# Altium schematic symbol library WL-STCB.SchLib: 2 symbols
Pins are listed as number, name and electrical type; pins without a type are passive.

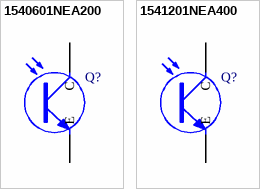
[diagram p0: symbols 1540601NEA200 to 1541201NEA400]

## 1540601NEA200
designator Q?  (value not drawn)
WL-STCB SMT Phototransistor Chip Black, size 0603, 700-1100nm, 1mA, 120°; Manufacturer: Wurth Elektronik; Case/Size Code: 0603; Chip Technology: Si; Collector Current Min: 0.5mA; Collector-Emitter Dark Current: 30nA; Polarity: NPN phototransistor; Range of Spectral Bandwidth Min: 700nm; Range of Spectral Bandwidth Max: 1100nm; Wavelength of Peak Sensitivity: 940nm; ComponentLink1Description: Website Link; ComponentLink1URL: https://www.we-online.com/redexpert/article/1540601NEA200?ad; ComponentLink2Description: Datasheet Link; ComponentLink2URL: https://www.we-online.com/redexpert/spec/1540601NEA200?ad; Manufacturer Part Number: 1540601NEA200; Category: Phototransistors; Match Code: WL-STCB; Mount: Surface Mount; Operating Temperature Max: 85°C; Operating Temperature Min: -40°C; Packaging: Tape and Reel; Length: 1.6mm; Width: 0.8mm; Height: 0.7mm; Collector Current: 1mA; Viewing Angle: 120°
footprint WL-STCB_0603
pins: 1 C, 2 E

## 1541201NEA400
designator Q?  (value not drawn)
WL-STCB SMT Phototransistor Chip Black, size 1206, 700-1100nm, 1.2mA, 140°; Manufacturer: Wurth Elektronik; Case/Size Code: 1206; Chip Technology: Si; Collector Current Min: 0.1mA; Collector-Emitter Dark Current: 100nA; Polarity: NPN phototransistor; Range of Spectral Bandwidth Min: 700nm; Range of Spectral Bandwidth Max: 1100nm; Wavelength of Peak Sensitivity: 940nm; ComponentLink1Description: Website Link; ComponentLink1URL: https://www.we-online.com/redexpert/article/1541201NEA400?ad; ComponentLink2Description: Datasheet Link; ComponentLink2URL: https://www.we-online.com/redexpert/spec/1541201NEA400?ad; Manufacturer Part Number: 1541201NEA400; Category: Phototransistors; Match Code: WL-STCB; Mount: Surface Mount; Operating Temperature Max: 85°C; Operating Temperature Min: -40°C; Packaging: Tape and Reel; Length: 3.2mm; Width: 1.6mm; Height: 1.1mm; Collector Current: 1.2mA; Viewing Angle: 140°
footprint WL-STCB_1206
pins: 1 C, 2 E